# Altium footprint library ACD8143.PcbLib: 1 footprints
Each footprint in its own frame and in the unit in brackets; x right, y up, seen from the top. Pads: shape width x height; smd on the part's side, far side on the other; paste and mask are expansions set on the pad; w line width, h text height; cw(c..) or ccw(c..) is an arc to the next point about the centre after c.
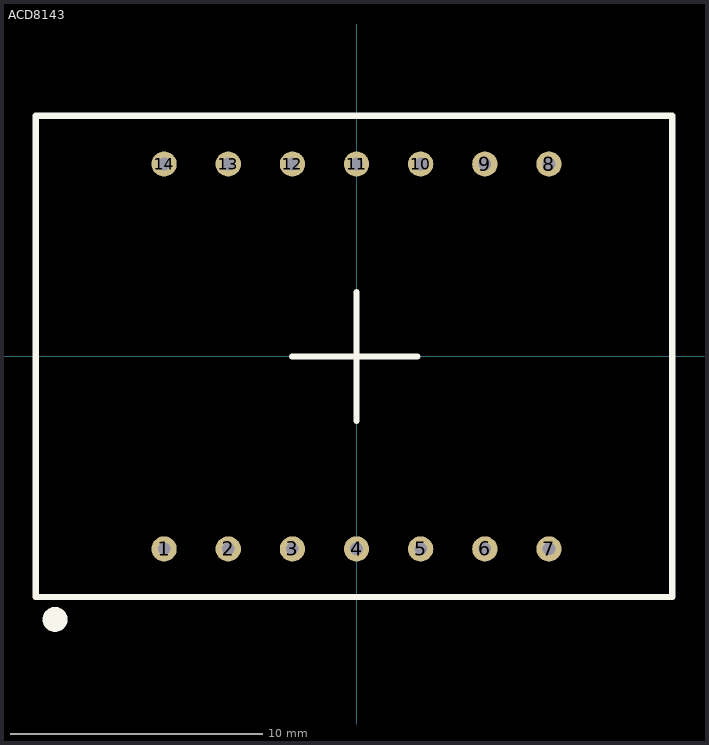
[diagram p0: the footprint, top view; thin cyan lines are the x and y axes]

## ACD8143 [mm]
pads (15):
  round 1 hole 0.5: 1(-7.62,-7.62) 2(-5.08,-7.62) 3(-2.54,-7.62) 4(0,-7.62) 5(2.54,-7.62) 6(5.08,-7.62) 7(7.62,-7.62) 8(7.62,7.62) 9(5.08,7.62) 10(2.54,7.62) 11(0,7.62) 12(-2.54,7.62) 13(-5.08,7.62) 14(-7.62,7.62)
  round 1 on Top Overlay: ""(-11.938,-10.414)
Top Overlay:
  lines w0.254: -2.54,0 2.413,0 ; 0,-2.54 0,2.54 ; -12.7,-9.525 -12.7,9.525 -12.5,9.525 12.5,9.525 12.5,-9.525 -12.7,-9.525
3D body: height 8, standoff 0, extent -12.7,-9.525 12.446,9.525